# Altium integrated library Maxim Digital Potentiometers.IntLib: 1045 symbols (part 37 of 42)
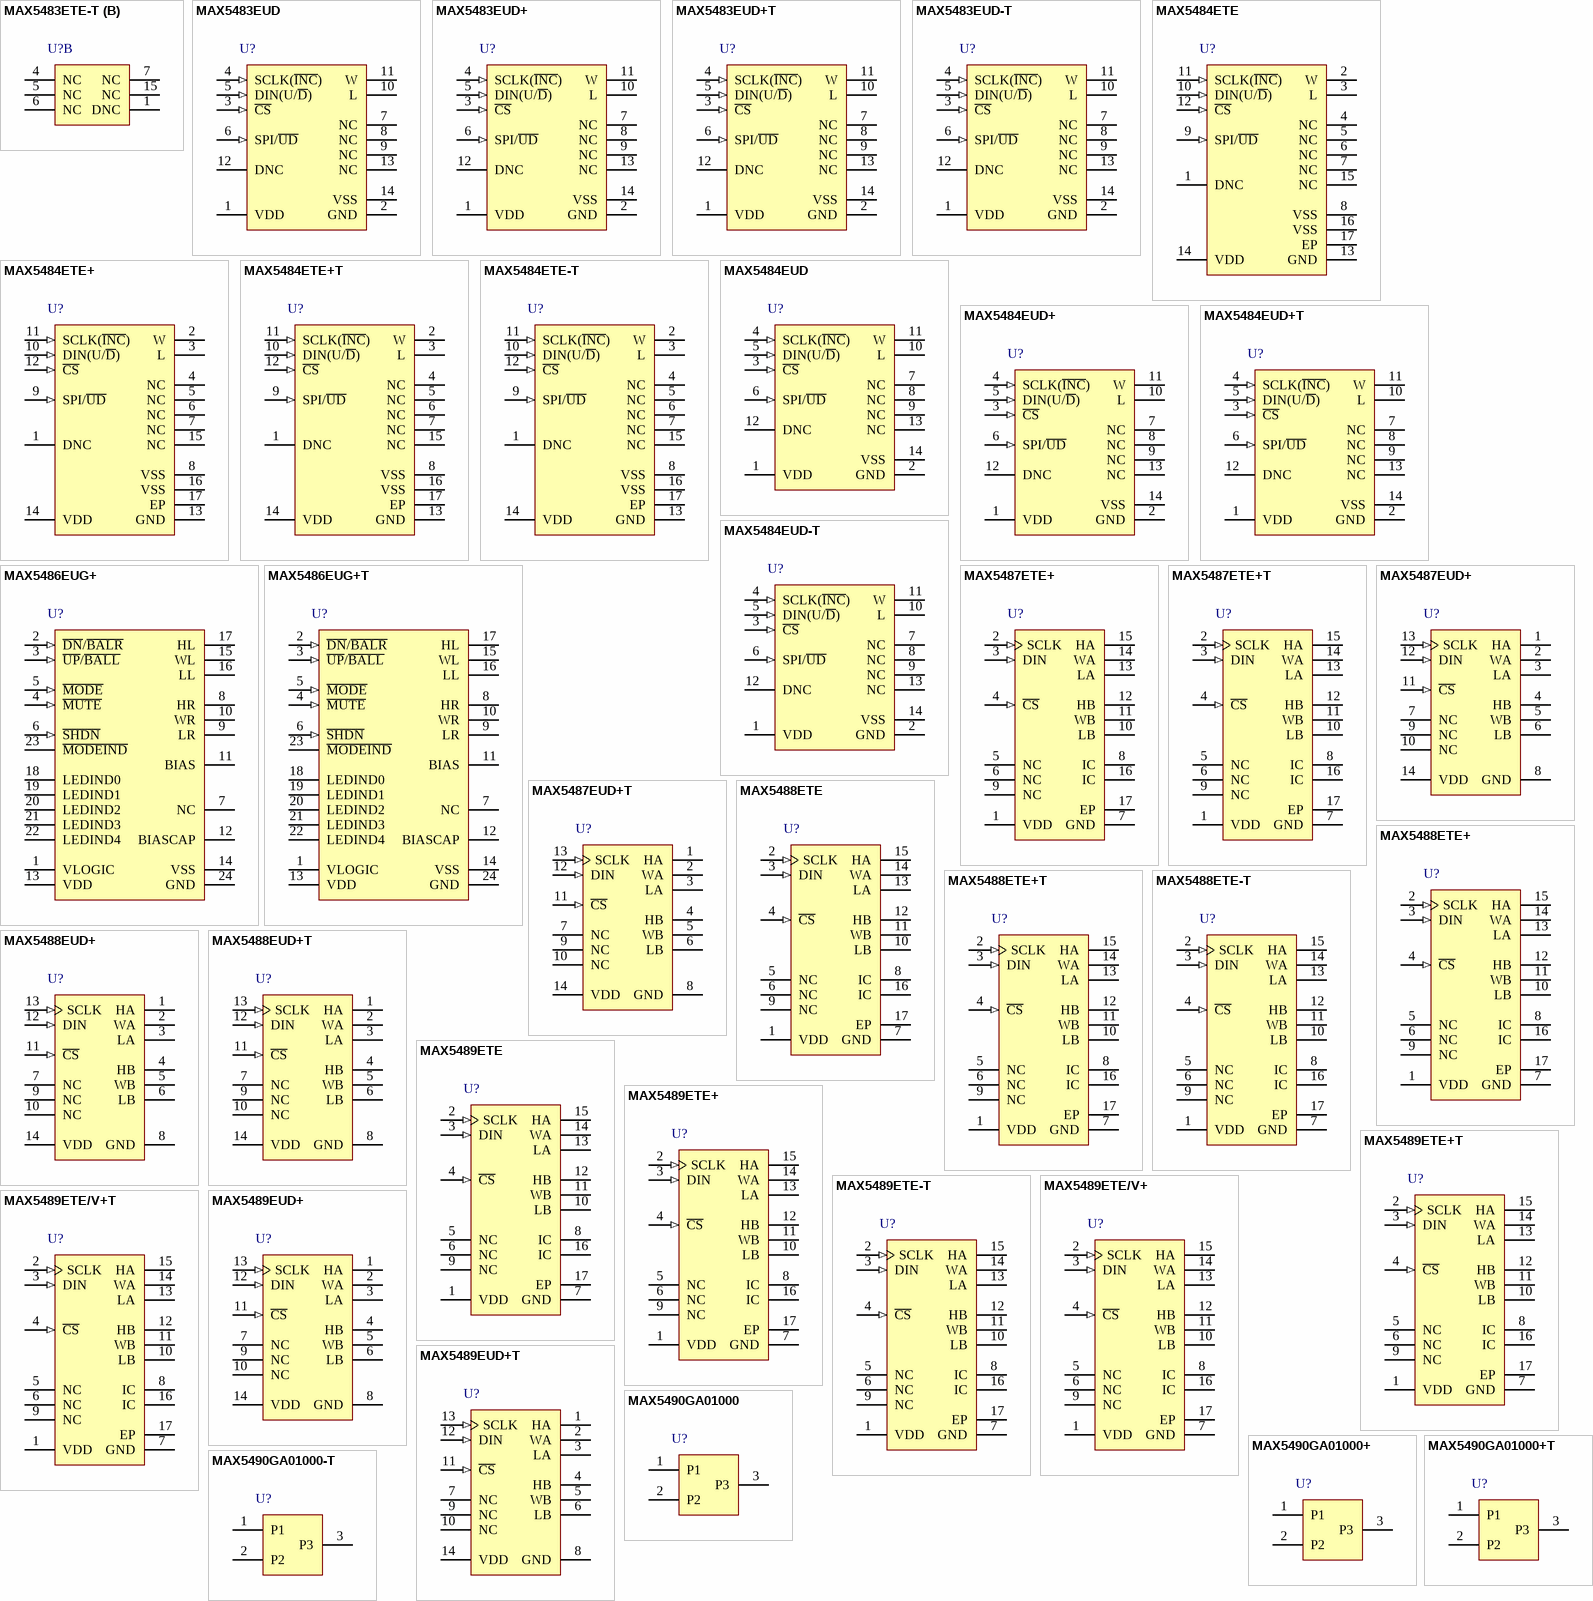
[diagram p65: symbols MAX5483ETE-T to MAX5490GA01000-T]

## MAX5489EUD+T
designator U?
Dual 100k Digital Potentiometer with 3-Wire Serial SPI Control Interface, Non-Volatile, Linear Taper, 256 Steps, -40 to 85 degC, 16-pin TSSOP (U14+1), Pb-Free, Tape and Reel; PartNumber: MAX5489EUD+T; Industry Qualified: Automotive - AECQ100, Automotive - General; DatasheetVersion: Rev. 4; PackageVersion: Rev. L, 07/2010; PackageReference: U14+1; PackageDescription: 14-Pin Thin Shrink Small-Outline Package (U14+1), Body 5 x 4.4 mm, Pitch 0.65 mm; Supplier 1: Digi-Key; Supplier Part Number 1: MAX5489EUD+T-ND; Supplier 2: Mouser; Supplier Part Number 2: 700-MAX5489EUDT; Control Interface: 3-Wire Serial SPI; Features: EEPROM Wiper Memory; Mounting Technology: Surface Mount; Code_JEDEC: MO-153; ComponentLink1Description: Manufacturer URL; ComponentLink1URL: http://www.maximintegrated.com/; ComponentLink2Description: Datasheet; ComponentLink2URL: http://datasheets.maximintegrated.com/en/ds/MAX5487-MAX5489.pdf; ComponentLink3Description: Package Specification; ComponentLink3URL: http://pdfserv.maximintegrated.com/package_dwgs/21-0066.PDF
footprint MAXM-U14+1_N (SOP, 14-Leads, Body 5x4.4mm, Pitch 0.65mm, IPC Medium Density)
footprint MAXM-U14+1_L (SOP, 14-Leads, Body 5x4.4mm, Pitch 0.65mm, IPC High Density)
footprint MAXM-U14+1_M (SOP, 14-Leads, Body 5x4.4mm, Pitch 0.65mm, IPC Low Density)
pins: 1 HA "High Terminal of Resistor A. The voltage at H can be greater than or less than the voltage at L. Current can flow into or out of H.", 2 WA "Wiper Terminal of Resistor A", 3 LA "Low Terminal of Resistor A. The voltage at L can be greater than or less than the voltage at H. Current can flow into or out of L.", 4 HB "High Terminal of Resistor B. The voltage at H can be greater than or less than the voltage at L. Current can flow into or out of H.", 5 WB "Wiper Terminal of Resistor B", 6 LB "Low Terminal of Resistor B. The voltage at L can be greater than or less than the voltage at H. Current can flow into or out of L", 7 NC "No Connection. Not internally connected", 8 GND (power) "Ground", 9 NC "No Connection. Not internally connected", 10 NC "No Connection. Not internally connected", 11 ~{CS} (in) "Active-Low Chip-Select Digital Input", 12 DIN (in) "Serial-Interface Data Input", 13 SCLK (in) "Serial-Interface Clock Input", 14 VDD (power) "Power Supply. Bypass VDD to GND with a 0.1µF capacitor as close to the device as possible."

## MAX5490GA01000
designator U?
100k 2 kv ESD Precision-Matched Resistor-Divider, -55 to 125 degC, 3-pin SOT (U3-2); PartNumber: MAX5490GA01000; DatasheetVersion: Rev. 2; PackageVersion: Rev. J, 06/2012; PackageReference: U3-2; PackageDescription: 3-Pin Small-Outline Transistor Package (U3-2), Body 2.92 x 1.3 mm, Pitch 0.95 mm; Supplier 1: Mouser; Supplier Part Number 1: N/A; Applications: Precision Voltage Divider; Mounting Technology: Surface Mount; Code_JEDEC: TO236; ComponentLink1Description: Manufacturer URL; ComponentLink1URL: http://www.maximintegrated.com/; ComponentLink2Description: Datasheet; ComponentLink2URL: http://datasheets.maximintegrated.com/en/ds/MAX5490.pdf; ComponentLink3Description: Package Specification; ComponentLink3URL: http://pdfserv.maximintegrated.com/package_dwgs/21-0051.PDF
footprint MAXM-U3-2_N (SOT23, 3-Leads, Body 2.92x1.3mm, Pitch 0.95mm, IPC Medium Density)
footprint MAXM-U3-2_L (SOT23, 3-Leads, Body 2.92x1.3mm, Pitch 0.95mm, IPC High Density)
footprint MAXM-U3-2_M (SOT23, 3-Leads, Body 2.92x1.3mm, Pitch 0.95mm, IPC Low Density)
pins: 1 P1 "R1 Connection Terminal", 2 P2 "R2 Connection Terminal", 3 P3 "Midpoint Between R1 and R2 Connection Terminals"

## MAX5490GA01000+
designator U?
100k 2 kv ESD Precision-Matched Resistor-Divider, -55 to 125 degC, 3-pin SOT (U3+2), Pb-Free; PartNumber: MAX5490GA01000+; DatasheetVersion: Rev. 2; PackageVersion: Rev. J, 06/2012; PackageReference: U3+2; PackageDescription: 3-Pin Small-Outline Transistor Package (U3+2), Body 2.92 x 1.3 mm, Pitch 0.95 mm; Supplier 1: Mouser; Supplier Part Number 1: N/A; Applications: Precision Voltage Divider; Mounting Technology: Surface Mount; Code_JEDEC: TO236; ComponentLink1Description: Manufacturer URL; ComponentLink1URL: http://www.maximintegrated.com/; ComponentLink2Description: Datasheet; ComponentLink2URL: http://datasheets.maximintegrated.com/en/ds/MAX5490.pdf; ComponentLink3Description: Package Specification; ComponentLink3URL: http://pdfserv.maximintegrated.com/package_dwgs/21-0051.PDF
footprint MAXM-U3+2_N (SOT23, 3-Leads, Body 2.92x1.3mm, Pitch 0.95mm, IPC Medium Density)
footprint MAXM-U3+2_L (SOT23, 3-Leads, Body 2.92x1.3mm, Pitch 0.95mm, IPC High Density)
footprint MAXM-U3+2_M (SOT23, 3-Leads, Body 2.92x1.3mm, Pitch 0.95mm, IPC Low Density)
pins: 1 P1 "R1 Connection Terminal", 2 P2 "R2 Connection Terminal", 3 P3 "Midpoint Between R1 and R2 Connection Terminals"

## MAX5490GA01000+T
designator U?
100k 2 kv ESD Precision-Matched Resistor-Divider, -55 to 125 degC, 3-pin SOT (U3+2), Pb-Free, Tape and Reel; PartNumber: MAX5490GA01000+T; DatasheetVersion: Rev. 2; PackageVersion: Rev. J, 06/2012; PackageReference: U3+2; PackageDescription: 3-Pin Small-Outline Transistor Package (U3+2), Body 2.92 x 1.3 mm, Pitch 0.95 mm; Supplier 1: Digi-Key; Supplier Part Number 1: MAX5490GA01000+TTR-ND; Supplier 2: Digi-Key; Supplier Part Number 2: MAX5490GA01000+TCT-ND; Supplier 3: Digi-Key; Supplier Part Number 3: MAX5490GA01000+TDKR-ND; Supplier 4: Mouser; Supplier Part Number 4: 700-MAX5490GA01000T; Applications: Precision Voltage Divider; Mounting Technology: Surface Mount; Code_JEDEC: TO236; ComponentLink1Description: Manufacturer URL; ComponentLink1URL: http://www.maximintegrated.com/; ComponentLink2Description: Datasheet; ComponentLink2URL: http://datasheets.maximintegrated.com/en/ds/MAX5490.pdf; ComponentLink3Description: Package Specification; ComponentLink3URL: http://pdfserv.maximintegrated.com/package_dwgs/21-0051.PDF
footprint MAXM-U3+2_N (SOT23, 3-Leads, Body 2.92x1.3mm, Pitch 0.95mm, IPC Medium Density)
footprint MAXM-U3+2_L (SOT23, 3-Leads, Body 2.92x1.3mm, Pitch 0.95mm, IPC High Density)
footprint MAXM-U3+2_M (SOT23, 3-Leads, Body 2.92x1.3mm, Pitch 0.95mm, IPC Low Density)
pins: 1 P1 "R1 Connection Terminal", 2 P2 "R2 Connection Terminal", 3 P3 "Midpoint Between R1 and R2 Connection Terminals"

## MAX5490GA01000-T
designator U?
100k 2 kv ESD Precision-Matched Resistor-Divider, -55 to 125 degC, 3-pin SOT (U3-2), Tape and Reel; PartNumber: MAX5490GA01000-T; DatasheetVersion: Rev. 2; PackageVersion: Rev. J, 06/2012; PackageReference: U3-2; PackageDescription: 3-Pin Small-Outline Transistor Package (U3-2), Body 2.92 x 1.3 mm, Pitch 0.95 mm; Supplier 1: Mouser; Supplier Part Number 1: N/A; Applications: Precision Voltage Divider; Mounting Technology: Surface Mount; Code_JEDEC: TO236; ComponentLink1Description: Manufacturer URL; ComponentLink1URL: http://www.maximintegrated.com/; ComponentLink2Description: Datasheet; ComponentLink2URL: http://datasheets.maximintegrated.com/en/ds/MAX5490.pdf; ComponentLink3Description: Package Specification; ComponentLink3URL: http://pdfserv.maximintegrated.com/package_dwgs/21-0051.PDF
footprint MAXM-U3-2_N (SOT23, 3-Leads, Body 2.92x1.3mm, Pitch 0.95mm, IPC Medium Density)
footprint MAXM-U3-2_L (SOT23, 3-Leads, Body 2.92x1.3mm, Pitch 0.95mm, IPC High Density)
footprint MAXM-U3-2_M (SOT23, 3-Leads, Body 2.92x1.3mm, Pitch 0.95mm, IPC Low Density)
pins: 1 P1 "R1 Connection Terminal", 2 P2 "R2 Connection Terminal", 3 P3 "Midpoint Between R1 and R2 Connection Terminals"

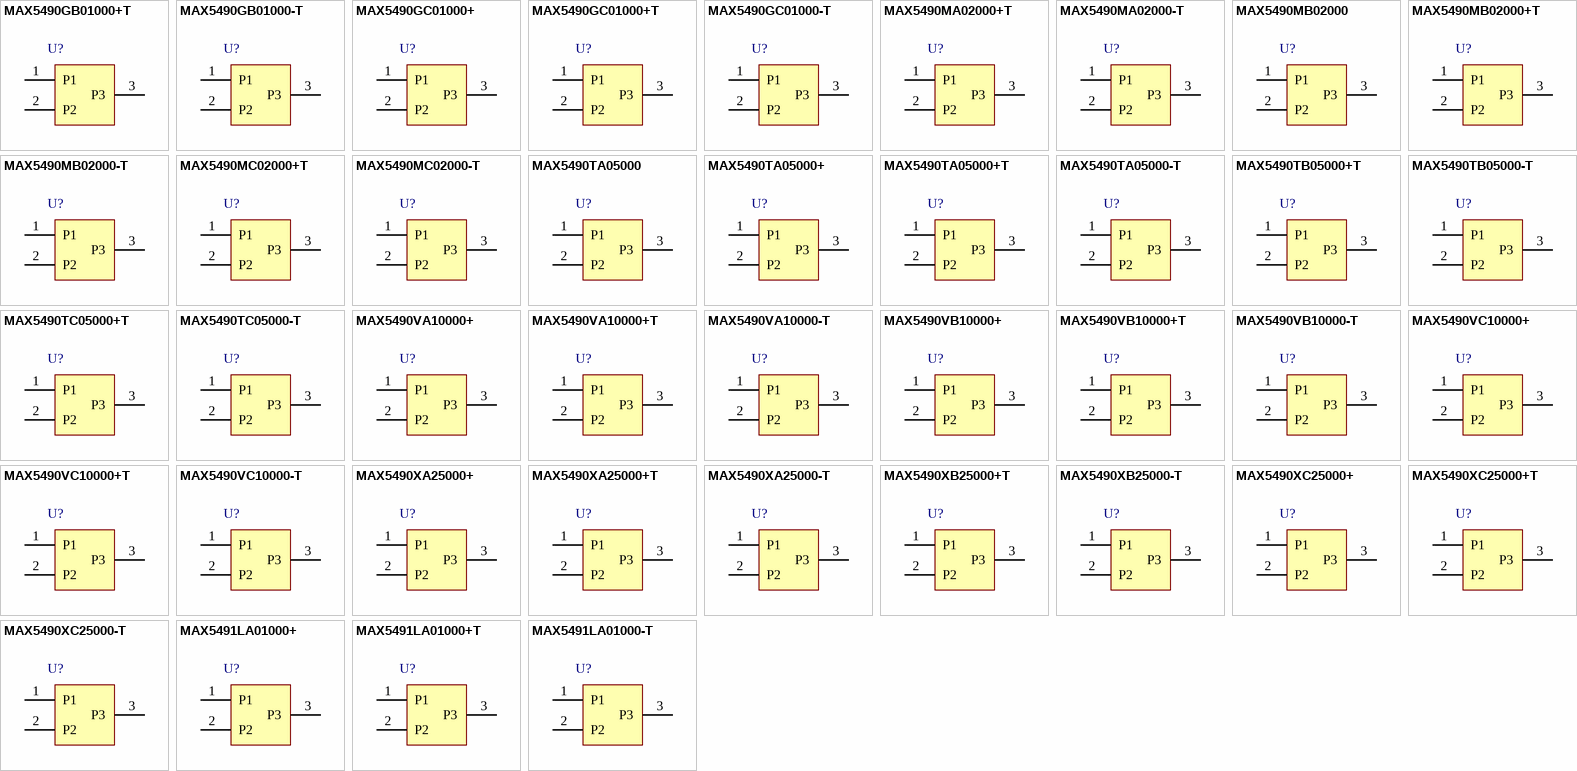
[diagram p25: symbols MAX5490GB01000+T to MAX5491LA01000-T]

## MAX5490GB01000+T
designator U?
100k 2 kv ESD Precision-Matched Resistor-Divider, -55 to 125 degC, 3-pin SOT (U3+2), Pb-Free, Tape and Reel; PartNumber: MAX5490GB01000+T; DatasheetVersion: Rev. 2; PackageVersion: Rev. J, 06/2012; PackageReference: U3+2; PackageDescription: 3-Pin Small-Outline Transistor Package (U3+2), Body 2.92 x 1.3 mm, Pitch 0.95 mm; Supplier 1: Digi-Key; Supplier Part Number 1: MAX5490GB01000+T-ND; Supplier 2: Mouser; Supplier Part Number 2: N/A; Applications: Precision Voltage Divider; Mounting Technology: Surface Mount; Code_JEDEC: TO236; ComponentLink1Description: Manufacturer URL; ComponentLink1URL: http://www.maximintegrated.com/; ComponentLink2Description: Datasheet; ComponentLink2URL: http://datasheets.maximintegrated.com/en/ds/MAX5490.pdf; ComponentLink3Description: Package Specification; ComponentLink3URL: http://pdfserv.maximintegrated.com/package_dwgs/21-0051.PDF
footprint MAXM-U3+2_N (SOT23, 3-Leads, Body 2.92x1.3mm, Pitch 0.95mm, IPC Medium Density)
footprint MAXM-U3+2_L (SOT23, 3-Leads, Body 2.92x1.3mm, Pitch 0.95mm, IPC High Density)
footprint MAXM-U3+2_M (SOT23, 3-Leads, Body 2.92x1.3mm, Pitch 0.95mm, IPC Low Density)
pins: 1 P1 "R1 Connection Terminal", 2 P2 "R2 Connection Terminal", 3 P3 "Midpoint Between R1 and R2 Connection Terminals"

## MAX5490GB01000-T
designator U?
100k 2 kv ESD Precision-Matched Resistor-Divider, -55 to 125 degC, 3-pin SOT (U3-2), Tape and Reel; PartNumber: MAX5490GB01000-T; DatasheetVersion: Rev. 2; PackageVersion: Rev. J, 06/2012; PackageReference: U3-2; PackageDescription: 3-Pin Small-Outline Transistor Package (U3-2), Body 2.92 x 1.3 mm, Pitch 0.95 mm; Supplier 1: Mouser; Supplier Part Number 1: N/A; Applications: Precision Voltage Divider; Mounting Technology: Surface Mount; Code_JEDEC: TO236; ComponentLink1Description: Manufacturer URL; ComponentLink1URL: http://www.maximintegrated.com/; ComponentLink2Description: Datasheet; ComponentLink2URL: http://datasheets.maximintegrated.com/en/ds/MAX5490.pdf; ComponentLink3Description: Package Specification; ComponentLink3URL: http://pdfserv.maximintegrated.com/package_dwgs/21-0051.PDF
footprint MAXM-U3-2_N (SOT23, 3-Leads, Body 2.92x1.3mm, Pitch 0.95mm, IPC Medium Density)
footprint MAXM-U3-2_L (SOT23, 3-Leads, Body 2.92x1.3mm, Pitch 0.95mm, IPC High Density)
footprint MAXM-U3-2_M (SOT23, 3-Leads, Body 2.92x1.3mm, Pitch 0.95mm, IPC Low Density)
pins: 1 P1 "R1 Connection Terminal", 2 P2 "R2 Connection Terminal", 3 P3 "Midpoint Between R1 and R2 Connection Terminals"

## MAX5490GC01000+
designator U?
100k 2 kv ESD Precision-Matched Resistor-Divider, -55 to 125 degC, 3-pin SOT (U3+2), Pb-Free; PartNumber: MAX5490GC01000+; DatasheetVersion: Rev. 2; PackageVersion: Rev. J, 06/2012; PackageReference: U3+2; PackageDescription: 3-Pin Small-Outline Transistor Package (U3+2), Body 2.92 x 1.3 mm, Pitch 0.95 mm; Supplier 1: Mouser; Supplier Part Number 1: N/A; Applications: Precision Voltage Divider; Mounting Technology: Surface Mount; Code_JEDEC: TO236; ComponentLink1Description: Manufacturer URL; ComponentLink1URL: http://www.maximintegrated.com/; ComponentLink2Description: Datasheet; ComponentLink2URL: http://datasheets.maximintegrated.com/en/ds/MAX5490.pdf; ComponentLink3Description: Package Specification; ComponentLink3URL: http://pdfserv.maximintegrated.com/package_dwgs/21-0051.PDF
footprint MAXM-U3+2_N (SOT23, 3-Leads, Body 2.92x1.3mm, Pitch 0.95mm, IPC Medium Density)
footprint MAXM-U3+2_L (SOT23, 3-Leads, Body 2.92x1.3mm, Pitch 0.95mm, IPC High Density)
footprint MAXM-U3+2_M (SOT23, 3-Leads, Body 2.92x1.3mm, Pitch 0.95mm, IPC Low Density)
pins: 1 P1 "R1 Connection Terminal", 2 P2 "R2 Connection Terminal", 3 P3 "Midpoint Between R1 and R2 Connection Terminals"

## MAX5490GC01000+T
designator U?
100k 2 kv ESD Precision-Matched Resistor-Divider, -55 to 125 degC, 3-pin SOT (U3+2), Pb-Free, Tape and Reel; PartNumber: MAX5490GC01000+T; DatasheetVersion: Rev. 2; PackageVersion: Rev. J, 06/2012; PackageReference: U3+2; PackageDescription: 3-Pin Small-Outline Transistor Package (U3+2), Body 2.92 x 1.3 mm, Pitch 0.95 mm; Supplier 1: Digi-Key; Supplier Part Number 1: MAX5490GC01000+TTR-ND; Supplier 2: Digi-Key; Supplier Part Number 2: MAX5490GC01000+TCT-ND; Supplier 3: Digi-Key; Supplier Part Number 3: MAX5490GC01000+TDKR-ND; Supplier 4: Farnell; Supplier Part Number 4: 1845898; Supplier 5: Mouser; Supplier Part Number 5: 700-MAX5490GC01000T; Applications: Precision Voltage Divider; Mounting Technology: Surface Mount; Code_JEDEC: TO236; ComponentLink1Description: Manufacturer URL; ComponentLink1URL: http://www.maximintegrated.com/; ComponentLink2Description: Datasheet; ComponentLink2URL: http://datasheets.maximintegrated.com/en/ds/MAX5490.pdf; ComponentLink3Description: Package Specification; ComponentLink3URL: http://pdfserv.maximintegrated.com/package_dwgs/21-0051.PDF
footprint MAXM-U3+2_N (SOT23, 3-Leads, Body 2.92x1.3mm, Pitch 0.95mm, IPC Medium Density)
footprint MAXM-U3+2_L (SOT23, 3-Leads, Body 2.92x1.3mm, Pitch 0.95mm, IPC High Density)
footprint MAXM-U3+2_M (SOT23, 3-Leads, Body 2.92x1.3mm, Pitch 0.95mm, IPC Low Density)
pins: 1 P1 "R1 Connection Terminal", 2 P2 "R2 Connection Terminal", 3 P3 "Midpoint Between R1 and R2 Connection Terminals"

## MAX5490GC01000-T
designator U?
100k 2 kv ESD Precision-Matched Resistor-Divider, -55 to 125 degC, 3-pin SOT (U3-2), Tape and Reel; PartNumber: MAX5490GC01000-T; DatasheetVersion: Rev. 2; PackageVersion: Rev. J, 06/2012; PackageReference: U3-2; PackageDescription: 3-Pin Small-Outline Transistor Package (U3-2), Body 2.92 x 1.3 mm, Pitch 0.95 mm; Supplier 1: Mouser; Supplier Part Number 1: N/A; Applications: Precision Voltage Divider; Mounting Technology: Surface Mount; Code_JEDEC: TO236; ComponentLink1Description: Manufacturer URL; ComponentLink1URL: http://www.maximintegrated.com/; ComponentLink2Description: Datasheet; ComponentLink2URL: http://datasheets.maximintegrated.com/en/ds/MAX5490.pdf; ComponentLink3Description: Package Specification; ComponentLink3URL: http://pdfserv.maximintegrated.com/package_dwgs/21-0051.PDF
footprint MAXM-U3-2_N (SOT23, 3-Leads, Body 2.92x1.3mm, Pitch 0.95mm, IPC Medium Density)
footprint MAXM-U3-2_L (SOT23, 3-Leads, Body 2.92x1.3mm, Pitch 0.95mm, IPC High Density)
footprint MAXM-U3-2_M (SOT23, 3-Leads, Body 2.92x1.3mm, Pitch 0.95mm, IPC Low Density)
pins: 1 P1 "R1 Connection Terminal", 2 P2 "R2 Connection Terminal", 3 P3 "Midpoint Between R1 and R2 Connection Terminals"

## MAX5490MA02000+T
designator U?
100k 2 kv ESD Precision-Matched Resistor-Divider, -55 to 125 degC, 3-pin SOT (U3+2), Pb-Free, Tape and Reel; PartNumber: MAX5490MA02000+T; DatasheetVersion: Rev. 2; PackageVersion: Rev. J, 06/2012; PackageReference: U3+2; PackageDescription: 3-Pin Small-Outline Transistor Package (U3+2), Body 2.92 x 1.3 mm, Pitch 0.95 mm; Supplier 1: Digi-Key; Supplier Part Number 1: MAX5490MA02000+T-ND; Supplier 2: Mouser; Supplier Part Number 2: 700-MAX5490MA02000T; Applications: Precision Voltage Divider; Mounting Technology: Surface Mount; Code_JEDEC: TO236; ComponentLink1Description: Manufacturer URL; ComponentLink1URL: http://www.maximintegrated.com/; ComponentLink2Description: Datasheet; ComponentLink2URL: http://datasheets.maximintegrated.com/en/ds/MAX5490.pdf; ComponentLink3Description: Package Specification; ComponentLink3URL: http://pdfserv.maximintegrated.com/package_dwgs/21-0051.PDF
footprint MAXM-U3+2_N (SOT23, 3-Leads, Body 2.92x1.3mm, Pitch 0.95mm, IPC Medium Density)
footprint MAXM-U3+2_L (SOT23, 3-Leads, Body 2.92x1.3mm, Pitch 0.95mm, IPC High Density)
footprint MAXM-U3+2_M (SOT23, 3-Leads, Body 2.92x1.3mm, Pitch 0.95mm, IPC Low Density)
pins: 1 P1 "R1 Connection Terminal", 2 P2 "R2 Connection Terminal", 3 P3 "Midpoint Between R1 and R2 Connection Terminals"

## MAX5490MA02000-T
designator U?
100k 2 kv ESD Precision-Matched Resistor-Divider, -55 to 125 degC, 3-pin SOT (U3-2), Tape and Reel; PartNumber: MAX5490MA02000-T; DatasheetVersion: Rev. 2; PackageVersion: Rev. J, 06/2012; PackageReference: U3-2; PackageDescription: 3-Pin Small-Outline Transistor Package (U3-2), Body 2.92 x 1.3 mm, Pitch 0.95 mm; Supplier 1: Mouser; Supplier Part Number 1: N/A; Applications: Precision Voltage Divider; Mounting Technology: Surface Mount; Code_JEDEC: TO236; ComponentLink1Description: Manufacturer URL; ComponentLink1URL: http://www.maximintegrated.com/; ComponentLink2Description: Datasheet; ComponentLink2URL: http://datasheets.maximintegrated.com/en/ds/MAX5490.pdf; ComponentLink3Description: Package Specification; ComponentLink3URL: http://pdfserv.maximintegrated.com/package_dwgs/21-0051.PDF
footprint MAXM-U3-2_N (SOT23, 3-Leads, Body 2.92x1.3mm, Pitch 0.95mm, IPC Medium Density)
footprint MAXM-U3-2_L (SOT23, 3-Leads, Body 2.92x1.3mm, Pitch 0.95mm, IPC High Density)
footprint MAXM-U3-2_M (SOT23, 3-Leads, Body 2.92x1.3mm, Pitch 0.95mm, IPC Low Density)
pins: 1 P1 "R1 Connection Terminal", 2 P2 "R2 Connection Terminal", 3 P3 "Midpoint Between R1 and R2 Connection Terminals"

## MAX5490MB02000
designator U?
100k 2 kv ESD Precision-Matched Resistor-Divider, -55 to 125 degC, 3-pin SOT (U3-2); PartNumber: MAX5490MB02000; DatasheetVersion: Rev. 2; PackageVersion: Rev. J, 06/2012; PackageReference: U3-2; PackageDescription: 3-Pin Small-Outline Transistor Package (U3-2), Body 2.92 x 1.3 mm, Pitch 0.95 mm; Supplier 1: Mouser; Supplier Part Number 1: N/A; Applications: Precision Voltage Divider; Mounting Technology: Surface Mount; Code_JEDEC: TO236; ComponentLink1Description: Manufacturer URL; ComponentLink1URL: http://www.maximintegrated.com/; ComponentLink2Description: Datasheet; ComponentLink2URL: http://datasheets.maximintegrated.com/en/ds/MAX5490.pdf; ComponentLink3Description: Package Specification; ComponentLink3URL: http://pdfserv.maximintegrated.com/package_dwgs/21-0051.PDF
footprint MAXM-U3-2_N (SOT23, 3-Leads, Body 2.92x1.3mm, Pitch 0.95mm, IPC Medium Density)
footprint MAXM-U3-2_L (SOT23, 3-Leads, Body 2.92x1.3mm, Pitch 0.95mm, IPC High Density)
footprint MAXM-U3-2_M (SOT23, 3-Leads, Body 2.92x1.3mm, Pitch 0.95mm, IPC Low Density)
pins: 1 P1 "R1 Connection Terminal", 2 P2 "R2 Connection Terminal", 3 P3 "Midpoint Between R1 and R2 Connection Terminals"

## MAX5490MB02000+T
designator U?
100k 2 kv ESD Precision-Matched Resistor-Divider, -55 to 125 degC, 3-pin SOT (U3+2), Pb-Free, Tape and Reel; PartNumber: MAX5490MB02000+T; DatasheetVersion: Rev. 2; PackageVersion: Rev. J, 06/2012; PackageReference: U3+2; PackageDescription: 3-Pin Small-Outline Transistor Package (U3+2), Body 2.92 x 1.3 mm, Pitch 0.95 mm; Supplier 1: Digi-Key; Supplier Part Number 1: MAX5490MB02000+T-ND; Supplier 2: Mouser; Supplier Part Number 2: N/A; Applications: Precision Voltage Divider; Mounting Technology: Surface Mount; Code_JEDEC: TO236; ComponentLink1Description: Manufacturer URL; ComponentLink1URL: http://www.maximintegrated.com/; ComponentLink2Description: Datasheet; ComponentLink2URL: http://datasheets.maximintegrated.com/en/ds/MAX5490.pdf; ComponentLink3Description: Package Specification; ComponentLink3URL: http://pdfserv.maximintegrated.com/package_dwgs/21-0051.PDF
footprint MAXM-U3+2_N (SOT23, 3-Leads, Body 2.92x1.3mm, Pitch 0.95mm, IPC Medium Density)
footprint MAXM-U3+2_L (SOT23, 3-Leads, Body 2.92x1.3mm, Pitch 0.95mm, IPC High Density)
footprint MAXM-U3+2_M (SOT23, 3-Leads, Body 2.92x1.3mm, Pitch 0.95mm, IPC Low Density)
pins: 1 P1 "R1 Connection Terminal", 2 P2 "R2 Connection Terminal", 3 P3 "Midpoint Between R1 and R2 Connection Terminals"

## MAX5490MB02000-T
designator U?
100k 2 kv ESD Precision-Matched Resistor-Divider, -55 to 125 degC, 3-pin SOT (U3-2), Tape and Reel; PartNumber: MAX5490MB02000-T; DatasheetVersion: Rev. 2; PackageVersion: Rev. J, 06/2012; PackageReference: U3-2; PackageDescription: 3-Pin Small-Outline Transistor Package (U3-2), Body 2.92 x 1.3 mm, Pitch 0.95 mm; Supplier 1: Digi-Key; Supplier Part Number 1: MAX5490MB02000-TTR-ND; Supplier 2: Digi-Key; Supplier Part Number 2: MAX5490MB02000-TCT-ND; Supplier 3: Digi-Key; Supplier Part Number 3: MAX5490MB02000-TDKR-ND; Supplier 4: Mouser; Supplier Part Number 4: N/A; Applications: Precision Voltage Divider; Mounting Technology: Surface Mount; Code_JEDEC: TO236; ComponentLink1Description: Manufacturer URL; ComponentLink1URL: http://www.maximintegrated.com/; ComponentLink2Description: Datasheet; ComponentLink2URL: http://datasheets.maximintegrated.com/en/ds/MAX5490.pdf; ComponentLink3Description: Package Specification; ComponentLink3URL: http://pdfserv.maximintegrated.com/package_dwgs/21-0051.PDF
footprint MAXM-U3-2_N (SOT23, 3-Leads, Body 2.92x1.3mm, Pitch 0.95mm, IPC Medium Density)
footprint MAXM-U3-2_L (SOT23, 3-Leads, Body 2.92x1.3mm, Pitch 0.95mm, IPC High Density)
footprint MAXM-U3-2_M (SOT23, 3-Leads, Body 2.92x1.3mm, Pitch 0.95mm, IPC Low Density)
pins: 1 P1 "R1 Connection Terminal", 2 P2 "R2 Connection Terminal", 3 P3 "Midpoint Between R1 and R2 Connection Terminals"

## MAX5490MC02000+T
designator U?
100k 2 kv ESD Precision-Matched Resistor-Divider, -55 to 125 degC, 3-pin SOT (U3+2), Pb-Free, Tape and Reel; PartNumber: MAX5490MC02000+T; DatasheetVersion: Rev. 2; PackageVersion: Rev. J, 06/2012; PackageReference: U3+2; PackageDescription: 3-Pin Small-Outline Transistor Package (U3+2), Body 2.92 x 1.3 mm, Pitch 0.95 mm; Supplier 1: Digi-Key; Supplier Part Number 1: MAX5490MC02000+T-ND; Supplier 2: Mouser; Supplier Part Number 2: N/A; Applications: Precision Voltage Divider; Mounting Technology: Surface Mount; Code_JEDEC: TO236; ComponentLink1Description: Manufacturer URL; ComponentLink1URL: http://www.maximintegrated.com/; ComponentLink2Description: Datasheet; ComponentLink2URL: http://datasheets.maximintegrated.com/en/ds/MAX5490.pdf; ComponentLink3Description: Package Specification; ComponentLink3URL: http://pdfserv.maximintegrated.com/package_dwgs/21-0051.PDF
footprint MAXM-U3+2_N (SOT23, 3-Leads, Body 2.92x1.3mm, Pitch 0.95mm, IPC Medium Density)
footprint MAXM-U3+2_L (SOT23, 3-Leads, Body 2.92x1.3mm, Pitch 0.95mm, IPC High Density)
footprint MAXM-U3+2_M (SOT23, 3-Leads, Body 2.92x1.3mm, Pitch 0.95mm, IPC Low Density)
pins: 1 P1 "R1 Connection Terminal", 2 P2 "R2 Connection Terminal", 3 P3 "Midpoint Between R1 and R2 Connection Terminals"

## MAX5490MC02000-T
designator U?
100k 2 kv ESD Precision-Matched Resistor-Divider, -55 to 125 degC, 3-pin SOT (U3-2), Tape and Reel; PartNumber: MAX5490MC02000-T; DatasheetVersion: Rev. 2; PackageVersion: Rev. J, 06/2012; PackageReference: U3-2; PackageDescription: 3-Pin Small-Outline Transistor Package (U3-2), Body 2.92 x 1.3 mm, Pitch 0.95 mm; Supplier 1: Mouser; Supplier Part Number 1: N/A; Applications: Precision Voltage Divider; Mounting Technology: Surface Mount; Code_JEDEC: TO236; ComponentLink1Description: Manufacturer URL; ComponentLink1URL: http://www.maximintegrated.com/; ComponentLink2Description: Datasheet; ComponentLink2URL: http://datasheets.maximintegrated.com/en/ds/MAX5490.pdf; ComponentLink3Description: Package Specification; ComponentLink3URL: http://pdfserv.maximintegrated.com/package_dwgs/21-0051.PDF
footprint MAXM-U3-2_N (SOT23, 3-Leads, Body 2.92x1.3mm, Pitch 0.95mm, IPC Medium Density)
footprint MAXM-U3-2_L (SOT23, 3-Leads, Body 2.92x1.3mm, Pitch 0.95mm, IPC High Density)
footprint MAXM-U3-2_M (SOT23, 3-Leads, Body 2.92x1.3mm, Pitch 0.95mm, IPC Low Density)
pins: 1 P1 "R1 Connection Terminal", 2 P2 "R2 Connection Terminal", 3 P3 "Midpoint Between R1 and R2 Connection Terminals"

## MAX5490TA05000
designator U?
100k 2 kv ESD Precision-Matched Resistor-Divider, -55 to 125 degC, 3-pin SOT (U3-2); PartNumber: MAX5490TA05000; DatasheetVersion: Rev. 2; PackageVersion: Rev. J, 06/2012; PackageReference: U3-2; PackageDescription: 3-Pin Small-Outline Transistor Package (U3-2), Body 2.92 x 1.3 mm, Pitch 0.95 mm; Supplier 1: Mouser; Supplier Part Number 1: N/A; Applications: Precision Voltage Divider; Mounting Technology: Surface Mount; Code_JEDEC: TO236; ComponentLink1Description: Manufacturer URL; ComponentLink1URL: http://www.maximintegrated.com/; ComponentLink2Description: Datasheet; ComponentLink2URL: http://datasheets.maximintegrated.com/en/ds/MAX5490.pdf; ComponentLink3Description: Package Specification; ComponentLink3URL: http://pdfserv.maximintegrated.com/package_dwgs/21-0051.PDF
footprint MAXM-U3-2_N (SOT23, 3-Leads, Body 2.92x1.3mm, Pitch 0.95mm, IPC Medium Density)
footprint MAXM-U3-2_L (SOT23, 3-Leads, Body 2.92x1.3mm, Pitch 0.95mm, IPC High Density)
footprint MAXM-U3-2_M (SOT23, 3-Leads, Body 2.92x1.3mm, Pitch 0.95mm, IPC Low Density)
pins: 1 P1 "R1 Connection Terminal", 2 P2 "R2 Connection Terminal", 3 P3 "Midpoint Between R1 and R2 Connection Terminals"

## MAX5490TA05000+
designator U?
100k 2 kv ESD Precision-Matched Resistor-Divider, -55 to 125 degC, 3-pin SOT (U3+2), Pb-Free; PartNumber: MAX5490TA05000+; DatasheetVersion: Rev. 2; PackageVersion: Rev. J, 06/2012; PackageReference: U3+2; PackageDescription: 3-Pin Small-Outline Transistor Package (U3+2), Body 2.92 x 1.3 mm, Pitch 0.95 mm; Supplier 1: Mouser; Supplier Part Number 1: N/A; Applications: Precision Voltage Divider; Mounting Technology: Surface Mount; Code_JEDEC: TO236; ComponentLink1Description: Manufacturer URL; ComponentLink1URL: http://www.maximintegrated.com/; ComponentLink2Description: Datasheet; ComponentLink2URL: http://datasheets.maximintegrated.com/en/ds/MAX5490.pdf; ComponentLink3Description: Package Specification; ComponentLink3URL: http://pdfserv.maximintegrated.com/package_dwgs/21-0051.PDF
footprint MAXM-U3+2_N (SOT23, 3-Leads, Body 2.92x1.3mm, Pitch 0.95mm, IPC Medium Density)
footprint MAXM-U3+2_L (SOT23, 3-Leads, Body 2.92x1.3mm, Pitch 0.95mm, IPC High Density)
footprint MAXM-U3+2_M (SOT23, 3-Leads, Body 2.92x1.3mm, Pitch 0.95mm, IPC Low Density)
pins: 1 P1 "R1 Connection Terminal", 2 P2 "R2 Connection Terminal", 3 P3 "Midpoint Between R1 and R2 Connection Terminals"

## MAX5490TA05000+T
designator U?
100k 2 kv ESD Precision-Matched Resistor-Divider, -55 to 125 degC, 3-pin SOT (U3+2), Pb-Free, Tape and Reel; PartNumber: MAX5490TA05000+T; DatasheetVersion: Rev. 2; PackageVersion: Rev. J, 06/2012; PackageReference: U3+2; PackageDescription: 3-Pin Small-Outline Transistor Package (U3+2), Body 2.92 x 1.3 mm, Pitch 0.95 mm; Supplier 1: Digi-Key; Supplier Part Number 1: MAX5490TA05000+TTR-ND; Supplier 2: Digi-Key; Supplier Part Number 2: MAX5490TA05000+TCT-ND; Supplier 3: Digi-Key; Supplier Part Number 3: MAX5490TA05000+TDKR-ND; Supplier 4: Mouser; Supplier Part Number 4: 700-MAX5490TA05000T; Applications: Precision Voltage Divider; Mounting Technology: Surface Mount; Code_JEDEC: TO236; ComponentLink1Description: Manufacturer URL; ComponentLink1URL: http://www.maximintegrated.com/; ComponentLink2Description: Datasheet; ComponentLink2URL: http://datasheets.maximintegrated.com/en/ds/MAX5490.pdf; ComponentLink3Description: Package Specification; ComponentLink3URL: http://pdfserv.maximintegrated.com/package_dwgs/21-0051.PDF
footprint MAXM-U3+2_N (SOT23, 3-Leads, Body 2.92x1.3mm, Pitch 0.95mm, IPC Medium Density)
footprint MAXM-U3+2_L (SOT23, 3-Leads, Body 2.92x1.3mm, Pitch 0.95mm, IPC High Density)
footprint MAXM-U3+2_M (SOT23, 3-Leads, Body 2.92x1.3mm, Pitch 0.95mm, IPC Low Density)
pins: 1 P1 "R1 Connection Terminal", 2 P2 "R2 Connection Terminal", 3 P3 "Midpoint Between R1 and R2 Connection Terminals"

## MAX5490TA05000-T
designator U?
100k 2 kv ESD Precision-Matched Resistor-Divider, -55 to 125 degC, 3-pin SOT (U3-2), Tape and Reel; PartNumber: MAX5490TA05000-T; DatasheetVersion: Rev. 2; PackageVersion: Rev. J, 06/2012; PackageReference: U3-2; PackageDescription: 3-Pin Small-Outline Transistor Package (U3-2), Body 2.92 x 1.3 mm, Pitch 0.95 mm; Supplier 1: Mouser; Supplier Part Number 1: N/A; Applications: Precision Voltage Divider; Mounting Technology: Surface Mount; Code_JEDEC: TO236; ComponentLink1Description: Manufacturer URL; ComponentLink1URL: http://www.maximintegrated.com/; ComponentLink2Description: Datasheet; ComponentLink2URL: http://datasheets.maximintegrated.com/en/ds/MAX5490.pdf; ComponentLink3Description: Package Specification; ComponentLink3URL: http://pdfserv.maximintegrated.com/package_dwgs/21-0051.PDF
footprint MAXM-U3-2_N (SOT23, 3-Leads, Body 2.92x1.3mm, Pitch 0.95mm, IPC Medium Density)
footprint MAXM-U3-2_L (SOT23, 3-Leads, Body 2.92x1.3mm, Pitch 0.95mm, IPC High Density)
footprint MAXM-U3-2_M (SOT23, 3-Leads, Body 2.92x1.3mm, Pitch 0.95mm, IPC Low Density)
pins: 1 P1 "R1 Connection Terminal", 2 P2 "R2 Connection Terminal", 3 P3 "Midpoint Between R1 and R2 Connection Terminals"

## MAX5490TB05000+T
designator U?
100k 2 kv ESD Precision-Matched Resistor-Divider, -55 to 125 degC, 3-pin SOT (U3+2), Pb-Free, Tape and Reel; PartNumber: MAX5490TB05000+T; DatasheetVersion: Rev. 2; PackageVersion: Rev. J, 06/2012; PackageReference: U3+2; PackageDescription: 3-Pin Small-Outline Transistor Package (U3+2), Body 2.92 x 1.3 mm, Pitch 0.95 mm; Supplier 1: Digi-Key; Supplier Part Number 1: MAX5490TB05000+T-ND; Supplier 2: Mouser; Supplier Part Number 2: N/A; Applications: Precision Voltage Divider; Mounting Technology: Surface Mount; Code_JEDEC: TO236; ComponentLink1Description: Manufacturer URL; ComponentLink1URL: http://www.maximintegrated.com/; ComponentLink2Description: Datasheet; ComponentLink2URL: http://datasheets.maximintegrated.com/en/ds/MAX5490.pdf; ComponentLink3Description: Package Specification; ComponentLink3URL: http://pdfserv.maximintegrated.com/package_dwgs/21-0051.PDF
footprint MAXM-U3+2_N (SOT23, 3-Leads, Body 2.92x1.3mm, Pitch 0.95mm, IPC Medium Density)
footprint MAXM-U3+2_L (SOT23, 3-Leads, Body 2.92x1.3mm, Pitch 0.95mm, IPC High Density)
footprint MAXM-U3+2_M (SOT23, 3-Leads, Body 2.92x1.3mm, Pitch 0.95mm, IPC Low Density)
pins: 1 P1 "R1 Connection Terminal", 2 P2 "R2 Connection Terminal", 3 P3 "Midpoint Between R1 and R2 Connection Terminals"

## MAX5490TB05000-T
designator U?
100k 2 kv ESD Precision-Matched Resistor-Divider, -55 to 125 degC, 3-pin SOT (U3-2), Tape and Reel; PartNumber: MAX5490TB05000-T; DatasheetVersion: Rev. 2; PackageVersion: Rev. J, 06/2012; PackageReference: U3-2; PackageDescription: 3-Pin Small-Outline Transistor Package (U3-2), Body 2.92 x 1.3 mm, Pitch 0.95 mm; Supplier 1: Mouser; Supplier Part Number 1: N/A; Applications: Precision Voltage Divider; Mounting Technology: Surface Mount; Code_JEDEC: TO236; ComponentLink1Description: Manufacturer URL; ComponentLink1URL: http://www.maximintegrated.com/; ComponentLink2Description: Datasheet; ComponentLink2URL: http://datasheets.maximintegrated.com/en/ds/MAX5490.pdf; ComponentLink3Description: Package Specification; ComponentLink3URL: http://pdfserv.maximintegrated.com/package_dwgs/21-0051.PDF
footprint MAXM-U3-2_N (SOT23, 3-Leads, Body 2.92x1.3mm, Pitch 0.95mm, IPC Medium Density)
footprint MAXM-U3-2_L (SOT23, 3-Leads, Body 2.92x1.3mm, Pitch 0.95mm, IPC High Density)
footprint MAXM-U3-2_M (SOT23, 3-Leads, Body 2.92x1.3mm, Pitch 0.95mm, IPC Low Density)
pins: 1 P1 "R1 Connection Terminal", 2 P2 "R2 Connection Terminal", 3 P3 "Midpoint Between R1 and R2 Connection Terminals"

## MAX5490TC05000+T
designator U?
100k 2 kv ESD Precision-Matched Resistor-Divider, -55 to 125 degC, 3-pin SOT (U3+2), Pb-Free, Tape and Reel; PartNumber: MAX5490TC05000+T; DatasheetVersion: Rev. 2; PackageVersion: Rev. J, 06/2012; PackageReference: U3+2; PackageDescription: 3-Pin Small-Outline Transistor Package (U3+2), Body 2.92 x 1.3 mm, Pitch 0.95 mm; Supplier 1: Digi-Key; Supplier Part Number 1: MAX5490TC05000+T-ND; Supplier 2: Mouser; Supplier Part Number 2: N/A; Applications: Precision Voltage Divider; Mounting Technology: Surface Mount; Code_JEDEC: TO236; ComponentLink1Description: Manufacturer URL; ComponentLink1URL: http://www.maximintegrated.com/; ComponentLink2Description: Datasheet; ComponentLink2URL: http://datasheets.maximintegrated.com/en/ds/MAX5490.pdf; ComponentLink3Description: Package Specification; ComponentLink3URL: http://pdfserv.maximintegrated.com/package_dwgs/21-0051.PDF
footprint MAXM-U3+2_N (SOT23, 3-Leads, Body 2.92x1.3mm, Pitch 0.95mm, IPC Medium Density)
footprint MAXM-U3+2_L (SOT23, 3-Leads, Body 2.92x1.3mm, Pitch 0.95mm, IPC High Density)
footprint MAXM-U3+2_M (SOT23, 3-Leads, Body 2.92x1.3mm, Pitch 0.95mm, IPC Low Density)
pins: 1 P1 "R1 Connection Terminal", 2 P2 "R2 Connection Terminal", 3 P3 "Midpoint Between R1 and R2 Connection Terminals"

## MAX5490TC05000-T
designator U?
100k 2 kv ESD Precision-Matched Resistor-Divider, -55 to 125 degC, 3-pin SOT (U3-2), Tape and Reel; PartNumber: MAX5490TC05000-T; DatasheetVersion: Rev. 2; PackageVersion: Rev. J, 06/2012; PackageReference: U3-2; PackageDescription: 3-Pin Small-Outline Transistor Package (U3-2), Body 2.92 x 1.3 mm, Pitch 0.95 mm; Supplier 1: Mouser; Supplier Part Number 1: N/A; Applications: Precision Voltage Divider; Mounting Technology: Surface Mount; Code_JEDEC: TO236; ComponentLink1Description: Manufacturer URL; ComponentLink1URL: http://www.maximintegrated.com/; ComponentLink2Description: Datasheet; ComponentLink2URL: http://datasheets.maximintegrated.com/en/ds/MAX5490.pdf; ComponentLink3Description: Package Specification; ComponentLink3URL: http://pdfserv.maximintegrated.com/package_dwgs/21-0051.PDF
footprint MAXM-U3-2_N (SOT23, 3-Leads, Body 2.92x1.3mm, Pitch 0.95mm, IPC Medium Density)
footprint MAXM-U3-2_L (SOT23, 3-Leads, Body 2.92x1.3mm, Pitch 0.95mm, IPC High Density)
footprint MAXM-U3-2_M (SOT23, 3-Leads, Body 2.92x1.3mm, Pitch 0.95mm, IPC Low Density)
pins: 1 P1 "R1 Connection Terminal", 2 P2 "R2 Connection Terminal", 3 P3 "Midpoint Between R1 and R2 Connection Terminals"

## MAX5490VA10000+
designator U?
100k 2 kv ESD Precision-Matched Resistor-Divider, -55 to 125 degC, 3-pin SOT (U3+2), Pb-Free; PartNumber: MAX5490VA10000+; DatasheetVersion: Rev. 2; PackageVersion: Rev. J, 06/2012; PackageReference: U3+2; PackageDescription: 3-Pin Small-Outline Transistor Package (U3+2), Body 2.92 x 1.3 mm, Pitch 0.95 mm; Supplier 1: Mouser; Supplier Part Number 1: N/A; Applications: Precision Voltage Divider; Mounting Technology: Surface Mount; Code_JEDEC: TO236; ComponentLink1Description: Manufacturer URL; ComponentLink1URL: http://www.maximintegrated.com/; ComponentLink2Description: Datasheet; ComponentLink2URL: http://datasheets.maximintegrated.com/en/ds/MAX5490.pdf; ComponentLink3Description: Package Specification; ComponentLink3URL: http://pdfserv.maximintegrated.com/package_dwgs/21-0051.PDF
footprint MAXM-U3+2_N (SOT23, 3-Leads, Body 2.92x1.3mm, Pitch 0.95mm, IPC Medium Density)
footprint MAXM-U3+2_L (SOT23, 3-Leads, Body 2.92x1.3mm, Pitch 0.95mm, IPC High Density)
footprint MAXM-U3+2_M (SOT23, 3-Leads, Body 2.92x1.3mm, Pitch 0.95mm, IPC Low Density)
pins: 1 P1 "R1 Connection Terminal", 2 P2 "R2 Connection Terminal", 3 P3 "Midpoint Between R1 and R2 Connection Terminals"

## MAX5490VA10000+T
designator U?
100k 2 kv ESD Precision-Matched Resistor-Divider, -55 to 125 degC, 3-pin SOT (U3+2), Pb-Free, Tape and Reel; PartNumber: MAX5490VA10000+T; DatasheetVersion: Rev. 2; PackageVersion: Rev. J, 06/2012; PackageReference: U3+2; PackageDescription: 3-Pin Small-Outline Transistor Package (U3+2), Body 2.92 x 1.3 mm, Pitch 0.95 mm; Supplier 1: Digi-Key; Supplier Part Number 1: MAX5490VA10000+T-ND; Supplier 2: Mouser; Supplier Part Number 2: 700-MAX5490VA10000T; Applications: Precision Voltage Divider; Mounting Technology: Surface Mount; Code_JEDEC: TO236; ComponentLink1Description: Manufacturer URL; ComponentLink1URL: http://www.maximintegrated.com/; ComponentLink2Description: Datasheet; ComponentLink2URL: http://datasheets.maximintegrated.com/en/ds/MAX5490.pdf; ComponentLink3Description: Package Specification; ComponentLink3URL: http://pdfserv.maximintegrated.com/package_dwgs/21-0051.PDF
footprint MAXM-U3+2_N (SOT23, 3-Leads, Body 2.92x1.3mm, Pitch 0.95mm, IPC Medium Density)
footprint MAXM-U3+2_L (SOT23, 3-Leads, Body 2.92x1.3mm, Pitch 0.95mm, IPC High Density)
footprint MAXM-U3+2_M (SOT23, 3-Leads, Body 2.92x1.3mm, Pitch 0.95mm, IPC Low Density)
pins: 1 P1 "R1 Connection Terminal", 2 P2 "R2 Connection Terminal", 3 P3 "Midpoint Between R1 and R2 Connection Terminals"

## MAX5490VA10000-T
designator U?
100k 2 kv ESD Precision-Matched Resistor-Divider, -55 to 125 degC, 3-pin SOT (U3-2), Tape and Reel; PartNumber: MAX5490VA10000-T; DatasheetVersion: Rev. 2; PackageVersion: Rev. J, 06/2012; PackageReference: U3-2; PackageDescription: 3-Pin Small-Outline Transistor Package (U3-2), Body 2.92 x 1.3 mm, Pitch 0.95 mm; Supplier 1: Mouser; Supplier Part Number 1: N/A; Applications: Precision Voltage Divider; Mounting Technology: Surface Mount; Code_JEDEC: TO236; ComponentLink1Description: Manufacturer URL; ComponentLink1URL: http://www.maximintegrated.com/; ComponentLink2Description: Datasheet; ComponentLink2URL: http://datasheets.maximintegrated.com/en/ds/MAX5490.pdf; ComponentLink3Description: Package Specification; ComponentLink3URL: http://pdfserv.maximintegrated.com/package_dwgs/21-0051.PDF
footprint MAXM-U3-2_N (SOT23, 3-Leads, Body 2.92x1.3mm, Pitch 0.95mm, IPC Medium Density)
footprint MAXM-U3-2_L (SOT23, 3-Leads, Body 2.92x1.3mm, Pitch 0.95mm, IPC High Density)
footprint MAXM-U3-2_M (SOT23, 3-Leads, Body 2.92x1.3mm, Pitch 0.95mm, IPC Low Density)
pins: 1 P1 "R1 Connection Terminal", 2 P2 "R2 Connection Terminal", 3 P3 "Midpoint Between R1 and R2 Connection Terminals"

## MAX5490VB10000+
designator U?
100k 2 kv ESD Precision-Matched Resistor-Divider, -55 to 125 degC, 3-pin SOT (U3+2), Pb-Free; PartNumber: MAX5490VB10000+; DatasheetVersion: Rev. 2; PackageVersion: Rev. J, 06/2012; PackageReference: U3+2; PackageDescription: 3-Pin Small-Outline Transistor Package (U3+2), Body 2.92 x 1.3 mm, Pitch 0.95 mm; Supplier 1: Mouser; Supplier Part Number 1: N/A; Applications: Precision Voltage Divider; Mounting Technology: Surface Mount; Code_JEDEC: TO236; ComponentLink1Description: Manufacturer URL; ComponentLink1URL: http://www.maximintegrated.com/; ComponentLink2Description: Datasheet; ComponentLink2URL: http://datasheets.maximintegrated.com/en/ds/MAX5490.pdf; ComponentLink3Description: Package Specification; ComponentLink3URL: http://pdfserv.maximintegrated.com/package_dwgs/21-0051.PDF
footprint MAXM-U3+2_N (SOT23, 3-Leads, Body 2.92x1.3mm, Pitch 0.95mm, IPC Medium Density)
footprint MAXM-U3+2_L (SOT23, 3-Leads, Body 2.92x1.3mm, Pitch 0.95mm, IPC High Density)
footprint MAXM-U3+2_M (SOT23, 3-Leads, Body 2.92x1.3mm, Pitch 0.95mm, IPC Low Density)
pins: 1 P1 "R1 Connection Terminal", 2 P2 "R2 Connection Terminal", 3 P3 "Midpoint Between R1 and R2 Connection Terminals"

## MAX5490VB10000+T
designator U?
100k 2 kv ESD Precision-Matched Resistor-Divider, -55 to 125 degC, 3-pin SOT (U3+2), Pb-Free, Tape and Reel; PartNumber: MAX5490VB10000+T; DatasheetVersion: Rev. 2; PackageVersion: Rev. J, 06/2012; PackageReference: U3+2; PackageDescription: 3-Pin Small-Outline Transistor Package (U3+2), Body 2.92 x 1.3 mm, Pitch 0.95 mm; Supplier 1: Digi-Key; Supplier Part Number 1: MAX5490VB10000+T-ND; Supplier 2: Mouser; Supplier Part Number 2: 700-MAX5490VB10000T; Applications: Precision Voltage Divider; Mounting Technology: Surface Mount; Code_JEDEC: TO236; ComponentLink1Description: Manufacturer URL; ComponentLink1URL: http://www.maximintegrated.com/; ComponentLink2Description: Datasheet; ComponentLink2URL: http://datasheets.maximintegrated.com/en/ds/MAX5490.pdf; ComponentLink3Description: Package Specification; ComponentLink3URL: http://pdfserv.maximintegrated.com/package_dwgs/21-0051.PDF
footprint MAXM-U3+2_N (SOT23, 3-Leads, Body 2.92x1.3mm, Pitch 0.95mm, IPC Medium Density)
footprint MAXM-U3+2_L (SOT23, 3-Leads, Body 2.92x1.3mm, Pitch 0.95mm, IPC High Density)
footprint MAXM-U3+2_M (SOT23, 3-Leads, Body 2.92x1.3mm, Pitch 0.95mm, IPC Low Density)
pins: 1 P1 "R1 Connection Terminal", 2 P2 "R2 Connection Terminal", 3 P3 "Midpoint Between R1 and R2 Connection Terminals"

## MAX5490VB10000-T
designator U?
100k 2 kv ESD Precision-Matched Resistor-Divider, -55 to 125 degC, 3-pin SOT (U3-2), Tape and Reel; PartNumber: MAX5490VB10000-T; DatasheetVersion: Rev. 2; PackageVersion: Rev. J, 06/2012; PackageReference: U3-2; PackageDescription: 3-Pin Small-Outline Transistor Package (U3-2), Body 2.92 x 1.3 mm, Pitch 0.95 mm; Supplier 1: Mouser; Supplier Part Number 1: N/A; Applications: Precision Voltage Divider; Mounting Technology: Surface Mount; Code_JEDEC: TO236; ComponentLink1Description: Manufacturer URL; ComponentLink1URL: http://www.maximintegrated.com/; ComponentLink2Description: Datasheet; ComponentLink2URL: http://datasheets.maximintegrated.com/en/ds/MAX5490.pdf; ComponentLink3Description: Package Specification; ComponentLink3URL: http://pdfserv.maximintegrated.com/package_dwgs/21-0051.PDF
footprint MAXM-U3-2_N (SOT23, 3-Leads, Body 2.92x1.3mm, Pitch 0.95mm, IPC Medium Density)
footprint MAXM-U3-2_L (SOT23, 3-Leads, Body 2.92x1.3mm, Pitch 0.95mm, IPC High Density)
footprint MAXM-U3-2_M (SOT23, 3-Leads, Body 2.92x1.3mm, Pitch 0.95mm, IPC Low Density)
pins: 1 P1 "R1 Connection Terminal", 2 P2 "R2 Connection Terminal", 3 P3 "Midpoint Between R1 and R2 Connection Terminals"

## MAX5490VC10000+
designator U?
100k 2 kv ESD Precision-Matched Resistor-Divider, -55 to 125 degC, 3-pin SOT (U3+2), Pb-Free; PartNumber: MAX5490VC10000+; DatasheetVersion: Rev. 2; PackageVersion: Rev. J, 06/2012; PackageReference: U3+2; PackageDescription: 3-Pin Small-Outline Transistor Package (U3+2), Body 2.92 x 1.3 mm, Pitch 0.95 mm; Supplier 1: Mouser; Supplier Part Number 1: N/A; Applications: Precision Voltage Divider; Mounting Technology: Surface Mount; Code_JEDEC: TO236; ComponentLink1Description: Manufacturer URL; ComponentLink1URL: http://www.maximintegrated.com/; ComponentLink2Description: Datasheet; ComponentLink2URL: http://datasheets.maximintegrated.com/en/ds/MAX5490.pdf; ComponentLink3Description: Package Specification; ComponentLink3URL: http://pdfserv.maximintegrated.com/package_dwgs/21-0051.PDF
footprint MAXM-U3+2_N (SOT23, 3-Leads, Body 2.92x1.3mm, Pitch 0.95mm, IPC Medium Density)
footprint MAXM-U3+2_L (SOT23, 3-Leads, Body 2.92x1.3mm, Pitch 0.95mm, IPC High Density)
footprint MAXM-U3+2_M (SOT23, 3-Leads, Body 2.92x1.3mm, Pitch 0.95mm, IPC Low Density)
pins: 1 P1 "R1 Connection Terminal", 2 P2 "R2 Connection Terminal", 3 P3 "Midpoint Between R1 and R2 Connection Terminals"

## MAX5490VC10000+T
designator U?
100k 2 kv ESD Precision-Matched Resistor-Divider, -55 to 125 degC, 3-pin SOT (U3+2), Pb-Free, Tape and Reel; PartNumber: MAX5490VC10000+T; DatasheetVersion: Rev. 2; PackageVersion: Rev. J, 06/2012; PackageReference: U3+2; PackageDescription: 3-Pin Small-Outline Transistor Package (U3+2), Body 2.92 x 1.3 mm, Pitch 0.95 mm; Supplier 1: Digi-Key; Supplier Part Number 1: MAX5490VC10000+T-ND; Supplier 2: Mouser; Supplier Part Number 2: 700-MAX5490VC10000T; Applications: Precision Voltage Divider; Mounting Technology: Surface Mount; Code_JEDEC: TO236; ComponentLink1Description: Manufacturer URL; ComponentLink1URL: http://www.maximintegrated.com/; ComponentLink2Description: Datasheet; ComponentLink2URL: http://datasheets.maximintegrated.com/en/ds/MAX5490.pdf; ComponentLink3Description: Package Specification; ComponentLink3URL: http://pdfserv.maximintegrated.com/package_dwgs/21-0051.PDF
footprint MAXM-U3+2_N (SOT23, 3-Leads, Body 2.92x1.3mm, Pitch 0.95mm, IPC Medium Density)
footprint MAXM-U3+2_L (SOT23, 3-Leads, Body 2.92x1.3mm, Pitch 0.95mm, IPC High Density)
footprint MAXM-U3+2_M (SOT23, 3-Leads, Body 2.92x1.3mm, Pitch 0.95mm, IPC Low Density)
pins: 1 P1 "R1 Connection Terminal", 2 P2 "R2 Connection Terminal", 3 P3 "Midpoint Between R1 and R2 Connection Terminals"

## MAX5490VC10000-T
designator U?
100k 2 kv ESD Precision-Matched Resistor-Divider, -55 to 125 degC, 3-pin SOT (U3-2), Tape and Reel; PartNumber: MAX5490VC10000-T; DatasheetVersion: Rev. 2; PackageVersion: Rev. J, 06/2012; PackageReference: U3-2; PackageDescription: 3-Pin Small-Outline Transistor Package (U3-2), Body 2.92 x 1.3 mm, Pitch 0.95 mm; Supplier 1: Mouser; Supplier Part Number 1: N/A; Applications: Precision Voltage Divider; Mounting Technology: Surface Mount; Code_JEDEC: TO236; ComponentLink1Description: Manufacturer URL; ComponentLink1URL: http://www.maximintegrated.com/; ComponentLink2Description: Datasheet; ComponentLink2URL: http://datasheets.maximintegrated.com/en/ds/MAX5490.pdf; ComponentLink3Description: Package Specification; ComponentLink3URL: http://pdfserv.maximintegrated.com/package_dwgs/21-0051.PDF
footprint MAXM-U3-2_N (SOT23, 3-Leads, Body 2.92x1.3mm, Pitch 0.95mm, IPC Medium Density)
footprint MAXM-U3-2_L (SOT23, 3-Leads, Body 2.92x1.3mm, Pitch 0.95mm, IPC High Density)
footprint MAXM-U3-2_M (SOT23, 3-Leads, Body 2.92x1.3mm, Pitch 0.95mm, IPC Low Density)
pins: 1 P1 "R1 Connection Terminal", 2 P2 "R2 Connection Terminal", 3 P3 "Midpoint Between R1 and R2 Connection Terminals"

## MAX5490XA25000+
designator U?
100k 2 kv ESD Precision-Matched Resistor-Divider, -55 to 125 degC, 3-pin SOT (U3+2), Pb-Free; PartNumber: MAX5490XA25000+; DatasheetVersion: Rev. 2; PackageVersion: Rev. J, 06/2012; PackageReference: U3+2; PackageDescription: 3-Pin Small-Outline Transistor Package (U3+2), Body 2.92 x 1.3 mm, Pitch 0.95 mm; Supplier 1: Mouser; Supplier Part Number 1: N/A; Applications: Precision Voltage Divider; Mounting Technology: Surface Mount; Code_JEDEC: TO236; ComponentLink1Description: Manufacturer URL; ComponentLink1URL: http://www.maximintegrated.com/; ComponentLink2Description: Datasheet; ComponentLink2URL: http://datasheets.maximintegrated.com/en/ds/MAX5490.pdf; ComponentLink3Description: Package Specification; ComponentLink3URL: http://pdfserv.maximintegrated.com/package_dwgs/21-0051.PDF
footprint MAXM-U3+2_N (SOT23, 3-Leads, Body 2.92x1.3mm, Pitch 0.95mm, IPC Medium Density)
footprint MAXM-U3+2_L (SOT23, 3-Leads, Body 2.92x1.3mm, Pitch 0.95mm, IPC High Density)
footprint MAXM-U3+2_M (SOT23, 3-Leads, Body 2.92x1.3mm, Pitch 0.95mm, IPC Low Density)
pins: 1 P1 "R1 Connection Terminal", 2 P2 "R2 Connection Terminal", 3 P3 "Midpoint Between R1 and R2 Connection Terminals"

## MAX5490XA25000+T
designator U?
100k 2 kv ESD Precision-Matched Resistor-Divider, -55 to 125 degC, 3-pin SOT (U3+2), Pb-Free, Tape and Reel; PartNumber: MAX5490XA25000+T; DatasheetVersion: Rev. 2; PackageVersion: Rev. J, 06/2012; PackageReference: U3+2; PackageDescription: 3-Pin Small-Outline Transistor Package (U3+2), Body 2.92 x 1.3 mm, Pitch 0.95 mm; Supplier 1: Digi-Key; Supplier Part Number 1: MAX5490XA25000+T-ND; Supplier 2: Mouser; Supplier Part Number 2: N/A; Applications: Precision Voltage Divider; Mounting Technology: Surface Mount; Code_JEDEC: TO236; ComponentLink1Description: Manufacturer URL; ComponentLink1URL: http://www.maximintegrated.com/; ComponentLink2Description: Datasheet; ComponentLink2URL: http://datasheets.maximintegrated.com/en/ds/MAX5490.pdf; ComponentLink3Description: Package Specification; ComponentLink3URL: http://pdfserv.maximintegrated.com/package_dwgs/21-0051.PDF
footprint MAXM-U3+2_N (SOT23, 3-Leads, Body 2.92x1.3mm, Pitch 0.95mm, IPC Medium Density)
footprint MAXM-U3+2_L (SOT23, 3-Leads, Body 2.92x1.3mm, Pitch 0.95mm, IPC High Density)
footprint MAXM-U3+2_M (SOT23, 3-Leads, Body 2.92x1.3mm, Pitch 0.95mm, IPC Low Density)
pins: 1 P1 "R1 Connection Terminal", 2 P2 "R2 Connection Terminal", 3 P3 "Midpoint Between R1 and R2 Connection Terminals"

## MAX5490XA25000-T
designator U?
100k 2 kv ESD Precision-Matched Resistor-Divider, -55 to 125 degC, 3-pin SOT (U3-2), Tape and Reel; PartNumber: MAX5490XA25000-T; DatasheetVersion: Rev. 2; PackageVersion: Rev. J, 06/2012; PackageReference: U3-2; PackageDescription: 3-Pin Small-Outline Transistor Package (U3-2), Body 2.92 x 1.3 mm, Pitch 0.95 mm; Supplier 1: Mouser; Supplier Part Number 1: N/A; Applications: Precision Voltage Divider; Mounting Technology: Surface Mount; Code_JEDEC: TO236; ComponentLink1Description: Manufacturer URL; ComponentLink1URL: http://www.maximintegrated.com/; ComponentLink2Description: Datasheet; ComponentLink2URL: http://datasheets.maximintegrated.com/en/ds/MAX5490.pdf; ComponentLink3Description: Package Specification; ComponentLink3URL: http://pdfserv.maximintegrated.com/package_dwgs/21-0051.PDF
footprint MAXM-U3-2_N (SOT23, 3-Leads, Body 2.92x1.3mm, Pitch 0.95mm, IPC Medium Density)
footprint MAXM-U3-2_L (SOT23, 3-Leads, Body 2.92x1.3mm, Pitch 0.95mm, IPC High Density)
footprint MAXM-U3-2_M (SOT23, 3-Leads, Body 2.92x1.3mm, Pitch 0.95mm, IPC Low Density)
pins: 1 P1 "R1 Connection Terminal", 2 P2 "R2 Connection Terminal", 3 P3 "Midpoint Between R1 and R2 Connection Terminals"

## MAX5490XB25000+T
designator U?
100k 2 kv ESD Precision-Matched Resistor-Divider, -55 to 125 degC, 3-pin SOT (U3+2), Pb-Free, Tape and Reel; PartNumber: MAX5490XB25000+T; DatasheetVersion: Rev. 2; PackageVersion: Rev. J, 06/2012; PackageReference: U3+2; PackageDescription: 3-Pin Small-Outline Transistor Package (U3+2), Body 2.92 x 1.3 mm, Pitch 0.95 mm; Supplier 1: Digi-Key; Supplier Part Number 1: MAX5490XB25000+T-ND; Supplier 2: Mouser; Supplier Part Number 2: N/A; Applications: Precision Voltage Divider; Mounting Technology: Surface Mount; Code_JEDEC: TO236; ComponentLink1Description: Manufacturer URL; ComponentLink1URL: http://www.maximintegrated.com/; ComponentLink2Description: Datasheet; ComponentLink2URL: http://datasheets.maximintegrated.com/en/ds/MAX5490.pdf; ComponentLink3Description: Package Specification; ComponentLink3URL: http://pdfserv.maximintegrated.com/package_dwgs/21-0051.PDF
footprint MAXM-U3+2_N (SOT23, 3-Leads, Body 2.92x1.3mm, Pitch 0.95mm, IPC Medium Density)
footprint MAXM-U3+2_L (SOT23, 3-Leads, Body 2.92x1.3mm, Pitch 0.95mm, IPC High Density)
footprint MAXM-U3+2_M (SOT23, 3-Leads, Body 2.92x1.3mm, Pitch 0.95mm, IPC Low Density)
pins: 1 P1 "R1 Connection Terminal", 2 P2 "R2 Connection Terminal", 3 P3 "Midpoint Between R1 and R2 Connection Terminals"